# Altium schematic symbol library S6_2.SCHLIB: 50 symbols
Pins are listed as number, name and electrical type; pins without a type are passive.

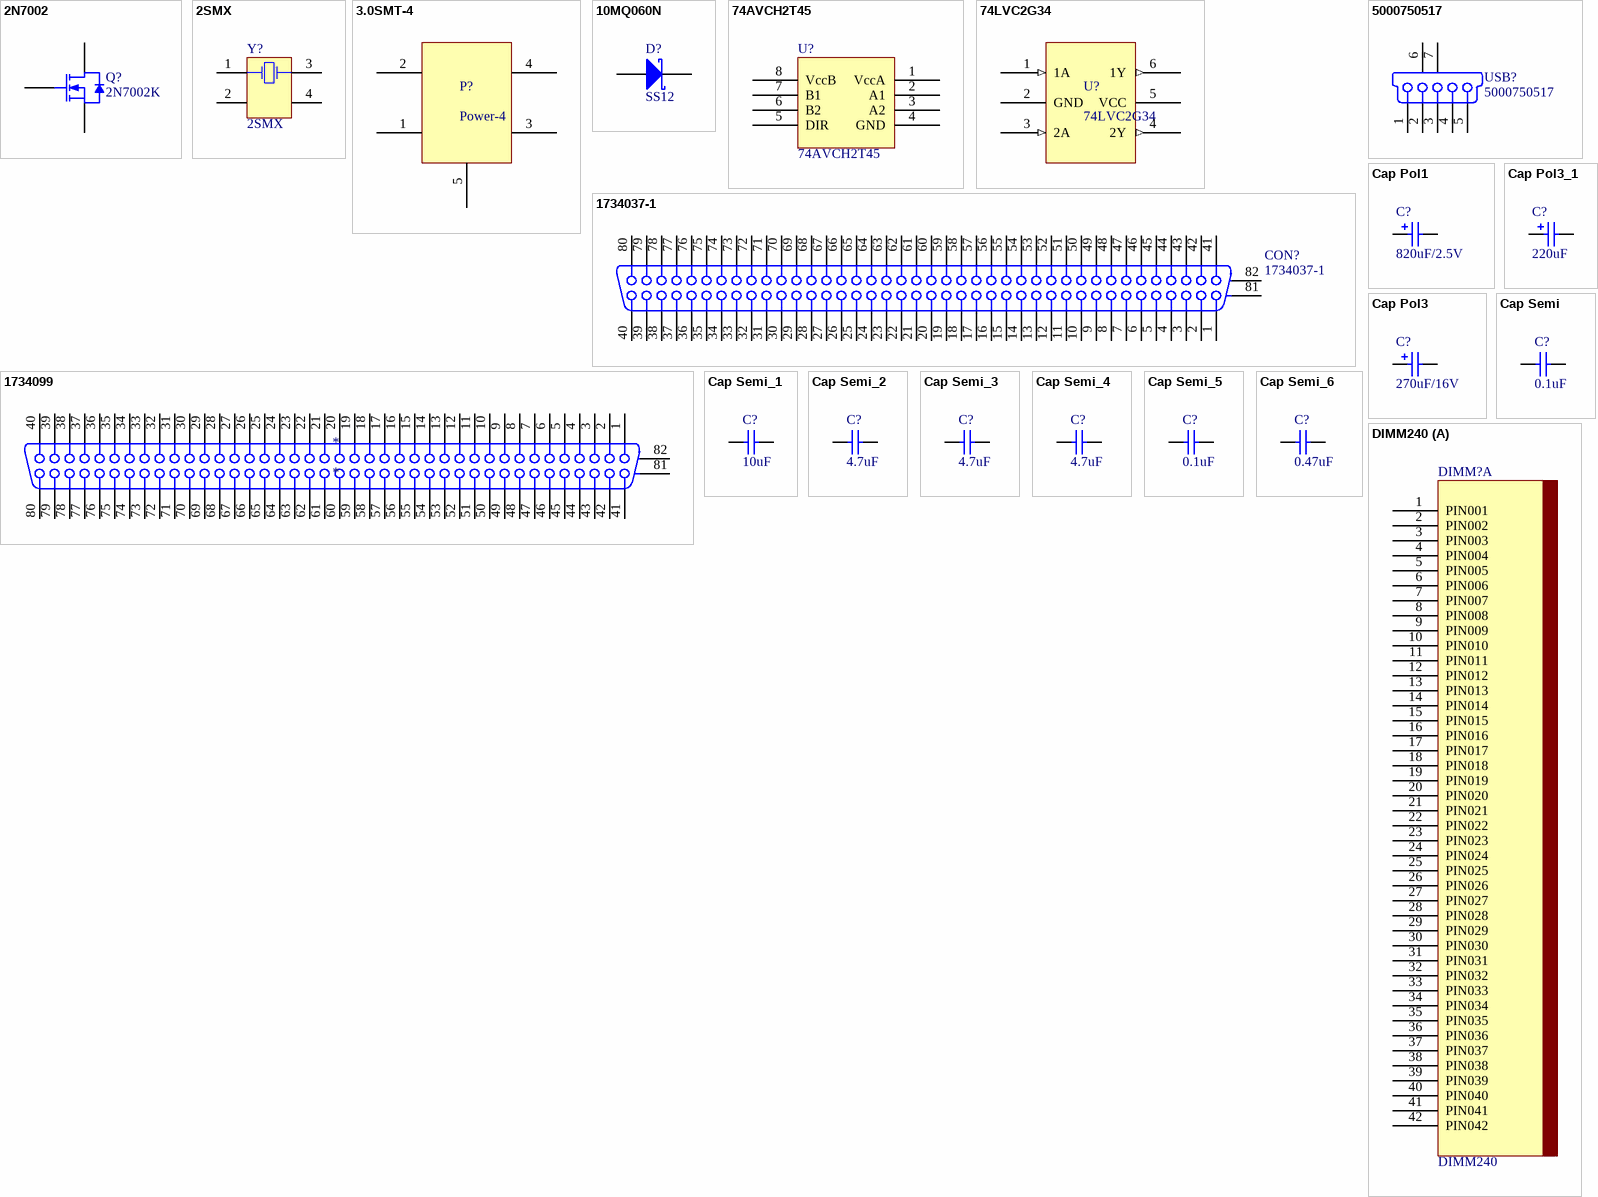
[diagram p0: symbols 2N7002 to DIMM240]

## 2N7002
designator Q?, comment 2N7002K
N-channel Enhancement Mode Field-effect Transistor; Published: 17-Sep-2003; LatestRevisionDate: 12-Dec-2006; LatestRevisionNote: IPC-7351 Footprint Added.; DatasheetVersion: 27-Jul-2000; PackageVersion: May-1999; PackageReference: SOT23; Publisher: Altium Limited; PackageDescription: 3-Pin SOT-23 Package 0.95 mm Pitch, 2.3 mm Lead Span; ComponentLink1Description: Manufacturer Link; ComponentLink1URL: http://www.semiconductors.philips.com/; ComponentLink2Description: Datasheet; ComponentLink2URL: http://www.semiconductors.philips.com/acrobat/datasheets/2N7002_4.pdf
footprint SOT23_N (SOT23, 3-Leads, Body 2.9x1.3mm, Pitch 0.95mm, Lead Span 2.3mm, IPC Medium Density)
footprint SOT23_L (SOT23, 3-Leads, Body 2.9x1.3mm, Pitch 0.95mm, Lead Span 2.3mm, IPC High Density)
footprint SOT23_M (SOT23, 3-Leads, Body 2.9x1.3mm, Pitch 0.95mm, Lead Span 2.3mm, IPC Low Density)
simulation model 2N7002 (SUBCKT)
pins: 1 G, 2 S, 3 D

## 2SMX
designator Y?
Surface Mount Quartz Crystal; Note: PCB layout complies with manufacturer's recommendation.; Published: 17-Jul-2002; DatasheetDocument: 9-Sep-1999; PackageDocument: 9-Sep-1999; PackageReference: 2SMX; Publisher: Altium Limited; ComponentLink1Description: Manufacturer Link; ComponentLink1URL: http://www.cmac.com/mt/
footprint SMX2
pins: 1 OSC1, 2 NC, 3 OSC2, 4 NC

## 3.0SMT-4
designator P?, comment Power-4
footprint 3.0SMT-4 (power connector)
pins: 1, 2, 3, 4, 5

## 10MQ060N
designator D?, comment SS12
Schottky Rectifier; Published: 17-Sep-2003; DatasheetVersion: May-2002; PackageVersion: revH, May-2002; PackageReference: SMA; Publisher: Altium Limited; PackageDescription: DO-214-AC/SMA; 2 C-Bend Leads; Body 5 x 2.7 mm, inc. leads (LxW); ComponentLink1Description: Manufacturer Link; ComponentLink1URL: http://www.irf.com/; ComponentLink2Description: Datasheet; ComponentLink2URL: http://www.irf.com/product-info/datasheets/data/10MQ060N.pdf
footprint SMA (DO-214-AC/SMA; 2 C-Bend Leads; Body 5 x 2.7 mm, inc. leads (LxW))
simulation model 10MQ060N (DIODE)
pins: 1 A, 2 K

## 74AVCH2T45
designator U?
footprint SOT765-1
pins: 1 VccA, 2 A1, 3 A2, 4 GND, 5 DIR, 6 B2, 7 B1, 8 VccB

## 74LVC2G34
designator U?
footprint SOT363_L (Footprint not found)
footprint SOT363_M (Footprint not found)
footprint SOT363_N (Footprint not found)
pins: 1 1A (in), 2 GND (power), 3 2A (in), 4 2Y (out), 5 VCC (power), 6 1Y (out)

## 1734037-1
designator CON?
footprint 1734037-1
pins: 1, 2, 3, 4, 5, 6, 7, 8, 9, 10, 11, 12, 13, 14, 15, 16, 17, 18, 19, 20, 21, 22, 23, 24, 25, 26, 27, 28, 29, 30, 31, 32, 33, 34, 35, 36, 37, 38, 39, 40, 41, 42, 43, 44, 45, 46, 47, 48, 49, 50, 51, 52, 53, 54, 55, 56, 57, 58, 59, 60, 61, 62, 63, 64, 65, 66, 67, 68, 69, 70, 71, 72, 73, 74, 75, 76, 77, 78, 79, 80, 81 MH1, 82 MH2

## 1734099
designator *
footprint 1734099
pins: 1, 2, 3, 4, 5, 6, 7, 8, 9, 10, 11, 12, 13, 14, 15, 16, 17, 18, 19, 20, 21, 22, 23, 24, 25, 26, 27, 28, 29, 30, 31, 32, 33, 34, 35, 36, 37, 38, 39, 40, 41, 42, 43, 44, 45, 46, 47, 48, 49, 50, 51, 52, 53, 54, 55, 56, 57, 58, 59, 60, 61, 62, 63, 64, 65, 66, 67, 68, 69, 70, 71, 72, 73, 74, 75, 76, 77, 78, 79, 80, 81 MH1, 82 MH2

## 5000750517
designator USB?
USB On-The-Go (OTG) Mini-B Receptacle, Right Angle, Thru-Hole, 0.80mm (.031") Pitch, Solder Tails & Shell Tabs with Dimples; PCB_Layout: Complies with Manufacturer's Recommendation.; Published: 30-May-2008; DatasheetVersion: rev0, Mar-2004; PackageVersion: rev0, Mar-2004; PackageReference: 5000750517; Publisher: Altium Limited; PackageDescription: USB Mini-B, Type 2, Thru-Hole; 5 Position; Vertical, Body 7.7 x 4.2 x 7.7 mm (LxWxH); ComponentLink1Description: Manufacturer Link; ComponentLink1URL: http://www.molex.com/; ComponentLink2Description: Datasheet; ComponentLink2URL: http://www.molex.com/pdm_docs/sd/5000750517_sd.pdf
footprint 5000750517 (Connector; USB Mini-B, Type 2, Thru-Hole; 5 Position; Vertical)
signal-integrity model USB Mini-B
pins: 1 V BUS "USB Vcc [Red]", 2 D- "USB Data - [White]", 3 D+ "USB Data + [Green]", 4 ID, 5 GND "Ground [Black]", 6 MH1 "Shell", 7 MH2 "Shell"

## Cap Pol1
designator C?, comment 820uF/2.5V
Polarized Capacitor (Radial); Published: 8-Jun-2000; LatestRevisionDate: 17-Jul-2002; LatestRevisionNote: Re-released for DXP Platform.; PackageReference: RB7.6-15; Publisher: Altium Limited; PackageDescription: Polarized Capacitor (Radial); 2 Leads; Value: 820uF/2.5V
footprint CAP8X8
simulation model CAP (Capacitor)
signal-integrity model Cap Pol
pins: 1, 2
1 alternate drawing of the same symbol

## Cap Pol3
designator C?, comment 270uF/16V
Polarized Capacitor (Surface Mount); Published: 8-Jun-2000; LatestRevisionDate: 29-May-2009; LatestRevisionNote: IPC-7351 Footprint Added.; PackageReference: C0805; Publisher: Altium Limited; PackageDescription: Chip Capacitor; Value: 270uF/16V
footprint CAP8X8
footprint 1812 (Chip Capacitor, Body 4.5x3.2mm, IPC High Density)
footprint 1825 (Chip Capacitor, Body 4.5x6.4mm, IPC High Density)
footprint C2225 (Chip Capacitor, Body 5.7x6.4mm, IPC High Density)
footprint 2220 (Chip Capacitor, Body 5.7x5.0mm, IPC High Density)
simulation model CAP (Capacitor)
signal-integrity model Cap Pol
pins: 1, 2
1 alternate drawing of the same symbol

## Cap Pol3_1
designator C?, comment 220uF
Polarized Capacitor (Surface Mount); Published: 8-Jun-2000; LatestRevisionDate: 29-May-2009; LatestRevisionNote: IPC-7351 Footprint Added.; PackageReference: C0805; Publisher: Altium Limited; PackageDescription: Chip Capacitor; Value: 220uF
footprint D (Capacitor, SM Tantalum; Body 7.3 x 4.3 mm (LxW typ))
footprint 1812 (Chip Capacitor, Body 4.5x3.2mm, IPC High Density)
footprint 1825 (Chip Capacitor, Body 4.5x6.4mm, IPC High Density)
footprint C2225 (Chip Capacitor, Body 5.7x6.4mm, IPC High Density)
footprint 2220 (Chip Capacitor, Body 5.7x5.0mm, IPC High Density)
simulation model CAP (Capacitor)
signal-integrity model Cap Pol
pins: 1, 2
1 alternate drawing of the same symbol

## Cap Semi
designator C?, comment 0.1uF
Capacitor (Semiconductor SIM Model); Published: 8-Jun-2000; LatestRevisionDate: 29-May-2009; LatestRevisionNote: IPC-7351 Footprint Added.; PackageReference: C1206; Publisher: Altium Limited; PackageDescription: Chip Capacitor; Value: 0.1uF
footprint CAPC3216L (Chip Capacitor, Body 3.2x1.6mm, IPC High Density)
footprint CAPC1005L (Chip Capacitor, Body 1.0x0.5mm, IPC High Density)
footprint CAPC2512L (Chip Capacitor, Body 2.54x1.27mm, IPC High Density)
footprint 1608[0603] (Chip Capacitor, Body 1.6x0.8mm, IPC High Density)
footprint CAPC3225L (Chip Capacitor, Body 3.2x2.5mm, IPC High Density)
simulation model CAP (Semiconductor Capacitor)
signal-integrity model Cap Semi
pins: 1, 2

## Cap Semi_1
designator C?, comment 10uF
Capacitor (Semiconductor SIM Model); Published: 8-Jun-2000; LatestRevisionDate: 29-May-2009; LatestRevisionNote: IPC-7351 Footprint Added.; PackageReference: C1206; Publisher: Altium Limited; PackageDescription: Chip Capacitor; Value: 10uF
footprint C1206 (Chip Capacitor, Body 3.2x1.6mm, IPC High Density)
footprint 0402 (Chip Capacitor, Body 1.0x0.5mm, IPC High Density)
footprint C2512 (Chip Capacitor, Body 2.54x1.27mm, IPC High Density)
footprint 1608[0603] (Chip Capacitor, Body 1.6x0.8mm, IPC High Density)
footprint C1210 (Chip Capacitor, Body 3.2x2.5mm, IPC High Density)
simulation model CAP (Semiconductor Capacitor)
signal-integrity model Cap Semi
pins: 1, 2

## Cap Semi_2
designator C?, comment 4.7uF
Capacitor (Semiconductor SIM Model); Published: 8-Jun-2000; LatestRevisionDate: 29-May-2009; LatestRevisionNote: IPC-7351 Footprint Added.; PackageReference: C1206; Publisher: Altium Limited; PackageDescription: Chip Capacitor; Value: 4.7uF
footprint C1206 (Chip Capacitor, Body 3.2x1.6mm, IPC High Density)
footprint 0402 (Chip Capacitor, Body 1.0x0.5mm, IPC High Density)
footprint C2512 (Chip Capacitor, Body 2.54x1.27mm, IPC High Density)
footprint C0805 (Chip Capacitor, Body 2.0x1.3mm, IPC High Density)
footprint C1210 (Chip Capacitor, Body 3.2x2.5mm, IPC High Density)
simulation model CAP (Semiconductor Capacitor)
signal-integrity model Cap Semi
pins: 1, 2

## Cap Semi_3
designator C?, comment 4.7uF
Capacitor (Semiconductor SIM Model); Published: 8-Jun-2000; LatestRevisionDate: 29-May-2009; LatestRevisionNote: IPC-7351 Footprint Added.; PackageReference: C1206; Publisher: Altium Limited; PackageDescription: Chip Capacitor; Value: 4.7uF
footprint C1206 (Chip Capacitor, Body 3.2x1.6mm, IPC High Density)
footprint 0402 (Chip Capacitor, Body 1.0x0.5mm, IPC High Density)
footprint C0805 (Chip Capacitor, Body 2.0x1.3mm, IPC High Density)
footprint 1608[0603] (Chip Capacitor, Body 1.6x0.8mm, IPC High Density)
footprint C1210 (Chip Capacitor, Body 3.2x2.5mm, IPC High Density)
simulation model CAP (Semiconductor Capacitor)
signal-integrity model Cap Semi
pins: 1, 2

## Cap Semi_4
designator C?, comment 4.7uF
Capacitor (Semiconductor SIM Model); Published: 8-Jun-2000; LatestRevisionDate: 29-May-2009; LatestRevisionNote: IPC-7351 Footprint Added.; PackageReference: C1206; Publisher: Altium Limited; PackageDescription: Chip Capacitor; Value: 4.7uF
footprint C0805 (Chip Capacitor, Body 2.0x1.3mm, IPC High Density)
footprint 0402 (Chip Capacitor, Body 1.0x0.5mm, IPC High Density)
footprint C2512 (Chip Capacitor, Body 2.54x1.27mm, IPC High Density)
footprint 1608[0603] (Chip Capacitor, Body 1.6x0.8mm, IPC High Density)
footprint C1210 (Chip Capacitor, Body 3.2x2.5mm, IPC High Density)
simulation model CAP (Semiconductor Capacitor)
signal-integrity model Cap Semi
pins: 1, 2

## Cap Semi_5
designator C?, comment 0.1uF
Capacitor (Semiconductor SIM Model); Published: 8-Jun-2000; LatestRevisionDate: 29-May-2009; LatestRevisionNote: IPC-7351 Footprint Added.; PackageReference: C1206; Publisher: Altium Limited; PackageDescription: Chip Capacitor; Value: 0.1uF
footprint C1206 (Chip Capacitor, Body 3.2x1.6mm, IPC High Density)
footprint 0402 (Chip Capacitor, Body 1.0x0.5mm, IPC High Density)
footprint C2512 (Chip Capacitor, Body 2.54x1.27mm, IPC High Density)
footprint 1608[0603] (Chip Capacitor, Body 1.6x0.8mm, IPC High Density)
footprint C1210 (Chip Capacitor, Body 3.2x2.5mm, IPC High Density)
simulation model CAP (Semiconductor Capacitor)
signal-integrity model Cap Semi
footprint J1-0603
pins: 1, 2

## Cap Semi_6
designator C?, comment 0.47uF
Capacitor (Semiconductor SIM Model); Published: 8-Jun-2000; LatestRevisionDate: 29-May-2009; LatestRevisionNote: IPC-7351 Footprint Added.; PackageReference: C1206; Publisher: Altium Limited; PackageDescription: Chip Capacitor; Value: 0.47uF
footprint C1206 (Chip Capacitor, Body 3.2x1.6mm, IPC High Density)
footprint 0402 (Chip Capacitor, Body 1.0x0.5mm, IPC High Density)
footprint C2512 (Chip Capacitor, Body 2.54x1.27mm, IPC High Density)
footprint 1608[0603] (Chip Capacitor, Body 1.6x0.8mm, IPC High Density)
footprint C1210 (Chip Capacitor, Body 3.2x2.5mm, IPC High Density)
simulation model CAP (Semiconductor Capacitor)
signal-integrity model Cap Semi
footprint C0805
pins: 1, 2

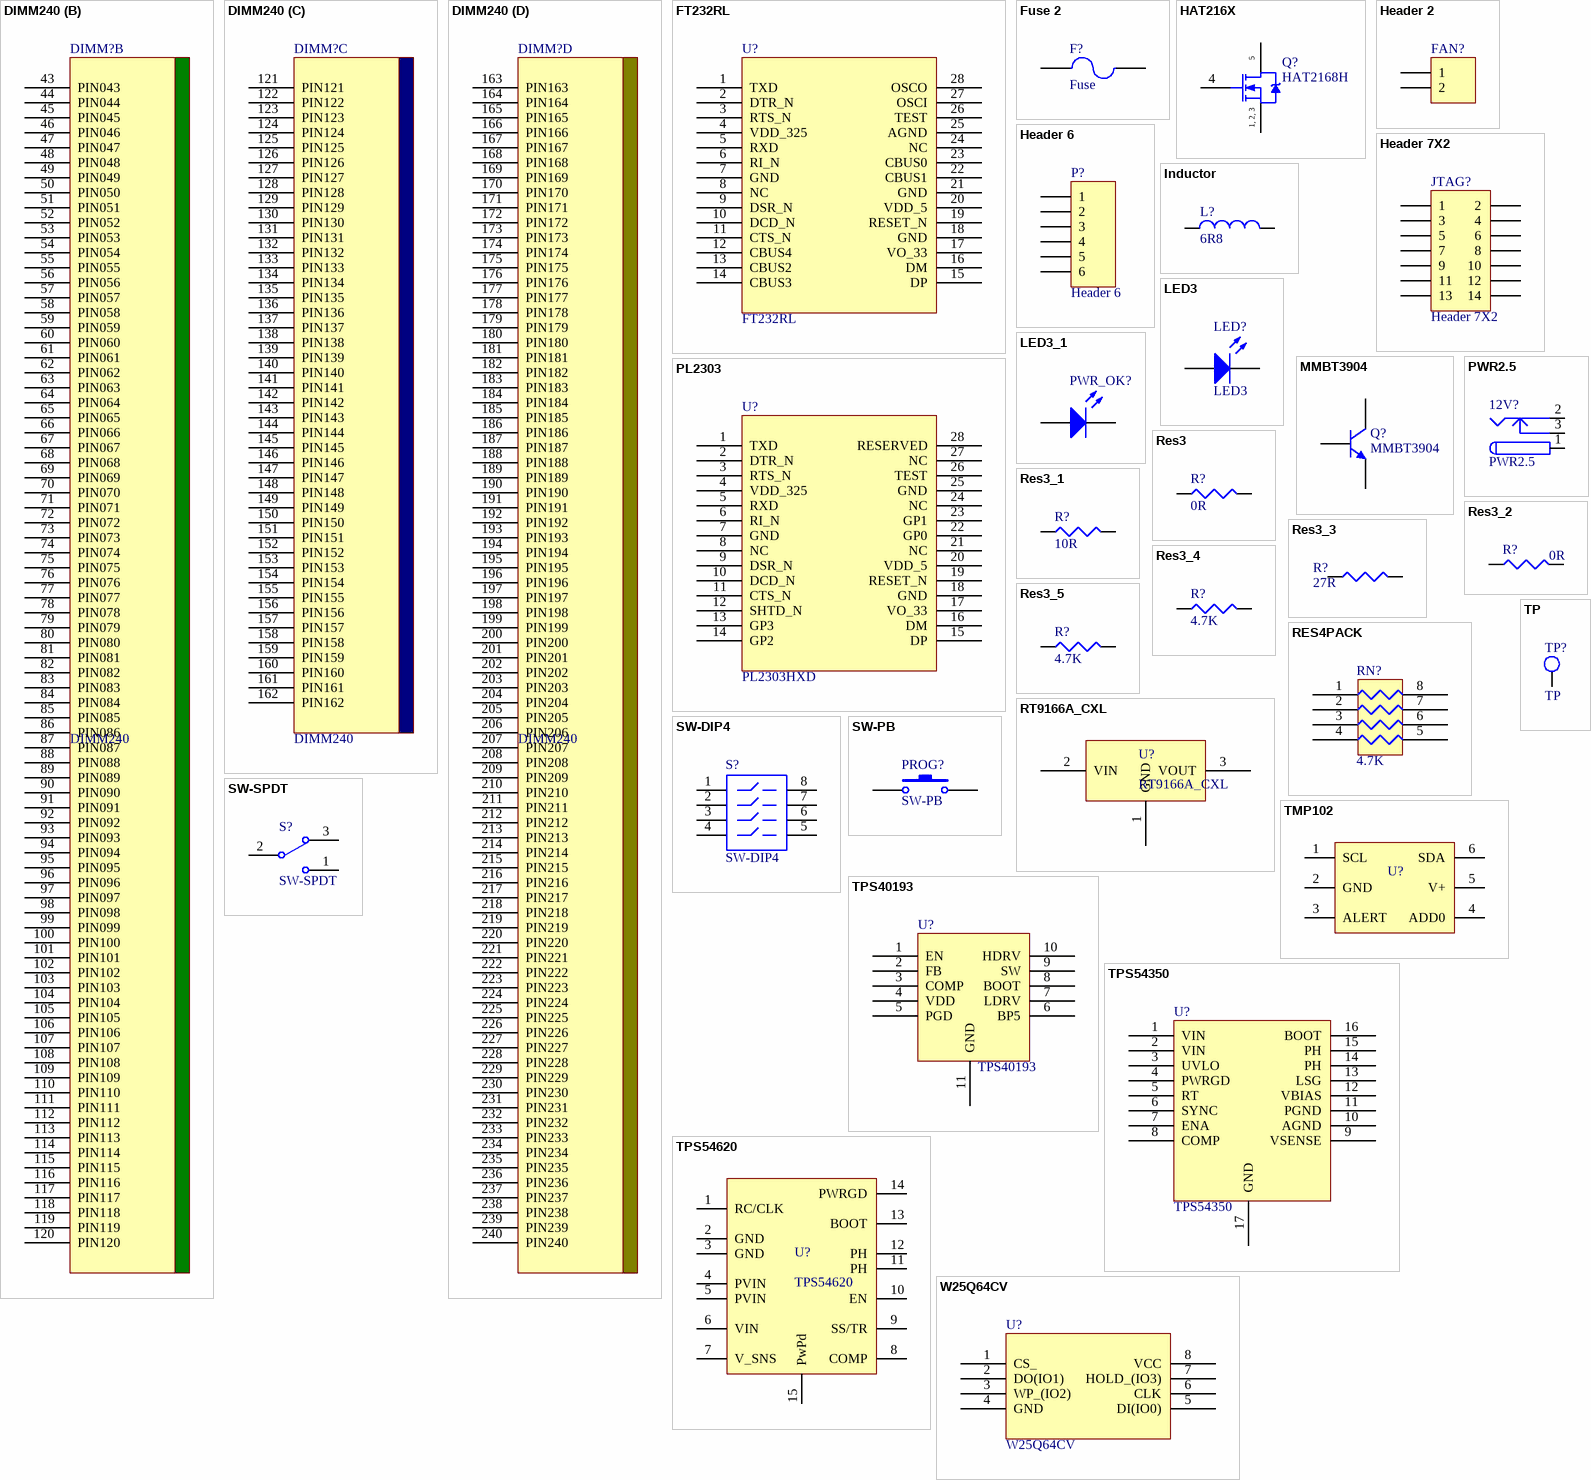
[diagram p1: symbols DIMM240 to W25Q64CV]

## DIMM240
designator DIMM?
footprint DIMM240
part A pins: 1 PIN001 (power), 2 PIN002 (power), 3 PIN003 (power), 4 PIN004 (power), 5 PIN005 (power), 6 PIN006 (power), 7 PIN007 (power), 8 PIN008 (power), 9 PIN009 (power), 10 PIN010 (power), 11 PIN011 (power), 12 PIN012 (power), 13 PIN013 (power), 14 PIN014 (power), 15 PIN015 (power), 16 PIN016 (power), 17 PIN017 (power), 18 PIN018 (power), 19 PIN019 (power), 20 PIN020 (power), 21 PIN021 (power), 22 PIN022 (power), 23 PIN023 (power), 24 PIN024 (power), 25 PIN025 (power), 26 PIN026 (power), 27 PIN027 (power), 28 PIN028 (power), 29 PIN029 (power), 30 PIN030 (power), 31 PIN031 (power), 32 PIN032 (power), 33 PIN033 (power), 34 PIN034 (power), 35 PIN035 (power), 36 PIN036 (power), 37 PIN037 (power), 38 PIN038 (power), 39 PIN039 (power), 40 PIN040 (power), 41 PIN041 (power), 42 PIN042 (power)
part B pins: 43 PIN043 (power), 44 PIN044 (power), 45 PIN045 (power), 46 PIN046 (power), 47 PIN047 (power), 48 PIN048 (power), 49 PIN049 (power), 50 PIN050 (power), 51 PIN051 (power), 52 PIN052 (power), 53 PIN053 (power), 54 PIN054 (power), 55 PIN055 (power), 56 PIN056 (power), 57 PIN057 (power), 58 PIN058 (power), 59 PIN059 (power), 60 PIN060 (power), 61 PIN061 (power), 62 PIN062 (power), 63 PIN063 (power), 64 PIN064 (power), 65 PIN065 (power), 66 PIN066 (power), 67 PIN067 (power), 68 PIN068 (power), 69 PIN069 (power), 70 PIN070 (power), 71 PIN071 (power), 72 PIN072 (power), 73 PIN073 (power), 74 PIN074 (power), 75 PIN075 (power), 76 PIN076 (power), 77 PIN077 (power), 78 PIN078 (power), 79 PIN079 (power), 80 PIN080 (power), 81 PIN081 (power), 82 PIN082 (power), 83 PIN083 (power), 84 PIN084 (power), 85 PIN085 (power), 86 PIN086 (power), 87 PIN087 (power), 88 PIN088 (power), 89 PIN089 (power), 90 PIN090 (power), 91 PIN091 (power), 92 PIN092 (power), 93 PIN093 (power), 94 PIN094 (power), 95 PIN095 (power), 96 PIN096 (power), 97 PIN097 (power), 98 PIN098 (power), 99 PIN099 (power), 100 PIN100 (power), 101 PIN101 (power), 102 PIN102 (power), 103 PIN103 (power), 104 PIN104 (power), 105 PIN105 (power), 106 PIN106 (power), 107 PIN107 (power), 108 PIN108 (power), 109 PIN109 (power), 110 PIN110 (power), 111 PIN111 (power), 112 PIN112 (power), 113 PIN113 (power), 114 PIN114 (power), 115 PIN115 (power), 116 PIN116 (power), 117 PIN117 (power), 118 PIN118 (power), 119 PIN119 (power), 120 PIN120 (power)
part C pins: 121 PIN121 (power), 122 PIN122 (power), 123 PIN123 (power), 124 PIN124 (power), 125 PIN125 (power), 126 PIN126 (power), 127 PIN127 (power), 128 PIN128 (power), 129 PIN129 (power), 130 PIN130 (power), 131 PIN131 (power), 132 PIN132 (power), 133 PIN133 (power), 134 PIN134 (power), 135 PIN135 (power), 136 PIN136 (power), 137 PIN137 (power), 138 PIN138 (power), 139 PIN139 (power), 140 PIN140 (power), 141 PIN141 (power), 142 PIN142 (power), 143 PIN143 (power), 144 PIN144 (power), 145 PIN145 (power), 146 PIN146 (power), 147 PIN147 (power), 148 PIN148 (power), 149 PIN149 (power), 150 PIN150 (power), 151 PIN151 (power), 152 PIN152 (power), 153 PIN153 (power), 154 PIN154 (power), 155 PIN155 (power), 156 PIN156 (power), 157 PIN157 (power), 158 PIN158 (power), 159 PIN159 (power), 160 PIN160 (power), 161 PIN161 (power), 162 PIN162 (power)
part D pins: 163 PIN163 (power), 164 PIN164 (power), 165 PIN165 (power), 166 PIN166 (power), 167 PIN167 (power), 168 PIN168 (power), 169 PIN169 (power), 170 PIN170 (power), 171 PIN171 (power), 172 PIN172 (power), 173 PIN173 (power), 174 PIN174 (power), 175 PIN175 (power), 176 PIN176 (power), 177 PIN177 (power), 178 PIN178 (power), 179 PIN179 (power), 180 PIN180 (power), 181 PIN181 (power), 182 PIN182 (power), 183 PIN183 (power), 184 PIN184 (power), 185 PIN185 (power), 186 PIN186 (power), 187 PIN187 (power), 188 PIN188 (power), 189 PIN189 (power), 190 PIN190 (power), 191 PIN191 (power), 192 PIN192 (power), 193 PIN193 (power), 194 PIN194 (power), 195 PIN195 (power), 196 PIN196 (power), 197 PIN197 (power), 198 PIN198 (power), 199 PIN199 (power), 200 PIN200 (power), 201 PIN201 (power), 202 PIN202 (power), 203 PIN203 (power), 204 PIN204 (power), 205 PIN205 (power), 206 PIN206 (power), 207 PIN207 (power), 208 PIN208 (power), 209 PIN209 (power), 210 PIN210 (power), 211 PIN211 (power), 212 PIN212 (power), 213 PIN213 (power), 214 PIN214 (power), 215 PIN215 (power), 216 PIN216 (power), 217 PIN217 (power), 218 PIN218 (power), 219 PIN219 (power), 220 PIN220 (power), 221 PIN221 (power), 222 PIN222 (power), 223 PIN223 (power), 224 PIN224 (power), 225 PIN225 (power), 226 PIN226 (power), 227 PIN227 (power), 228 PIN228 (power), 229 PIN229 (power), 230 PIN230 (power), 231 PIN231 (power), 232 PIN232 (power), 233 PIN233 (power), 234 PIN234 (power), 235 PIN235 (power), 236 PIN236 (power), 237 PIN237 (power), 238 PIN238 (power), 239 PIN239 (power), 240 PIN240 (power)

## FT232RL
designator U?
footprint SSOP28_N (SOP, 28-Leads, Body 10.2x5.3mm, Pitch 0.65mm, IPC Medium Density)
pins: 1 TXD (power), 2 DTR_N (power), 3 RTS_N (power), 4 VDD_325 (power), 5 RXD (power), 6 RI_N (power), 7 GND (power), 8 NC (power), 9 DSR_N (power), 10 DCD_N (power), 11 CTS_N (power), 12 CBUS4 (power), 13 CBUS2 (power), 14 CBUS3 (power), 15 DP (power), 16 DM (power), 17 VO_33 (power), 18 GND (power), 19 RESET_N (power), 20 VDD_5 (power), 21 GND (power), 22 CBUS1 (power), 23 CBUS0 (power), 24 NC (power), 25 AGND (power), 26 TEST (power), 27 OSCI (power), 28 OSCO (power)

## Fuse 2
designator F?, comment Fuse
Published: 8-Jun-2000; LatestRevisionDate: 17-Jul-2002; LatestRevisionNote: Re-released for DXP Platform.; PackageReference: PIN-W2/E2.8; Publisher: Altium Limited
footprint 12Z-2010 (Chip Resistor, Body 5.0x2.5mm, IPC High Density)
simulation model FUSE (Spice Subcircuit)
pins: 1, 2

## HAT216X
designator Q?, comment HAT2168H
footprint LFPAK
pins: 1 S, 2 S, 3 S, 4 G, 5 D
text: 1, 2, 3

## Header 2
designator FAN?  (value not drawn)
Header, 2-Pin; LatestRevisionDate: 17-Jul-2002; LatestRevisionNote: Re-released for DXP Platform.; Publisher: Altium Limited
footprint 2PINFAN
signal-integrity model Connector
pins: 1, 2

## Header 6
designator P?
Header, 6-Pin; LatestRevisionDate: 17-Jul-2002; LatestRevisionNote: Re-released for DXP Platform.; Publisher: Altium Limited
footprint HDR1X6 (Connector; Header; 6 Position)
signal-integrity model Connector
pins: 1, 2, 3, 4, 5, 6

## Header 7X2
designator JTAG?
Header, 7-Pin, Dual row; LatestRevisionDate: 17-Jul-2002; LatestRevisionNote: Re-released for DXP Platform.; Publisher: Altium Limited
footprint MOLEX14P
signal-integrity model Connector
pins: 1, 2, 3, 4, 5, 6, 7, 8, 9, 10, 11, 12, 13, 14

## Inductor
designator L?, comment value 6R8  (hidden comment: IHLP4040DZ11)
Inductor; Code_IEC: 1005; Published: 8-Jun-2000; LatestRevisionDate: 29-May-2009; LatestRevisionNote: IPC-7351 Footprint Added.; PackageReference: 0402-A; Publisher: Altium Limited; PackageDescription: Chip Inductor; Code_JEITA: 0402
footprint IHLP4040
footprint INDC1608L (Chip Inductor, Body 1.6x0.8mm, IPC High Density)
footprint 2029 (Chip Inductor, Body 2.0x1.2mm, IPC High Density)
footprint 0603 (Chip Inductor, Body 0.6x0.3mm, IPC High Density)
footprint INDC3216 (Chip Inductor, Body 3.2x1.6mm, IPC High Density)
footprint INDC4532 (Chip Inductor, Body 4.5x3.2mm, IPC High Density)
simulation model INDUCTOR (Inductor)
signal-integrity model Inductor
footprint IHLP2525
pins: 1, 2

## LED3
designator LED?
Typical BLUE SiC LED; Published: 8-Jun-2000; LatestRevisionDate: 17-Dec-2003; LatestRevisionNote: PCB Footprint replaced.; DatasheetVersion: 16-Apr-2002; PackageVersion: 16-Apr-2002; PackageReference: 3.5X2.8X1.9; Publisher: Altium Limited; PackageDescription: SM LED; 2 C-Bend Leads; Body 3.5 x 2.8 x 1.9 mm, inc leads (LxWxH typ)
footprint C0805 (Chip Capacitor, Body 2.0x1.3mm, IPC High Density)
simulation model LED3 (Diode)
signal-integrity model LED
footprint CD1608-0603
pins: 1 A, 2 K

## LED3_1
designator PWR_OK?, comment LED3  (value not drawn)
Typical BLUE SiC LED; Published: 8-Jun-2000; LatestRevisionDate: 17-Dec-2003; LatestRevisionNote: PCB Footprint replaced.; DatasheetVersion: 16-Apr-2002; PackageVersion: 16-Apr-2002; PackageReference: 3.5X2.8X1.9; Publisher: Altium Limited; PackageDescription: SM LED; 2 C-Bend Leads; Body 3.5 x 2.8 x 1.9 mm, inc leads (LxWxH typ)
footprint CD1608-0603 (Chip Diode; Body 1.6 x 0.8 mm (LxW typ))
simulation model LED3 (Diode)
signal-integrity model LED
pins: 1 A, 2 K

## MMBT3904
designator Q?
NPN Switching Transistor; Published: 17-Sep-2003; LatestRevisionDate: 12-Dec-2006; LatestRevisionNote: IPC-7351 Footprint Added.; DatasheetVersion: 13-May-2002; PackageVersion: May-1999; PackageReference: SOT23; Publisher: Altium Limited; PackageDescription: 3-Pin SOT-23 Package 0.95 mm Pitch, 2.3 mm Lead Span; ComponentLink1Description: Manufacturer Link; ComponentLink1URL: http://www.semiconductors.philips.com/; ComponentLink2Description: Datasheet; ComponentLink2URL: http://www.semiconductors.philips.com/acrobat/datasheets/MMBT3904_4.pdf
footprint SOT23_N (SOT23, 3-Leads, Body 2.9x1.3mm, Pitch 0.95mm, Lead Span 2.3mm, IPC Medium Density)
footprint SOT23_L (SOT23, 3-Leads, Body 2.9x1.3mm, Pitch 0.95mm, Lead Span 2.3mm, IPC High Density)
footprint SOT23_M (SOT23, 3-Leads, Body 2.9x1.3mm, Pitch 0.95mm, Lead Span 2.3mm, IPC Low Density)
simulation model QMMBT3904 (NPN)
signal-integrity model MMBT3904
pins: 1 B, 2 E, 3 C

## PL2303
designator U?, comment PL2303HXD
footprint SSOP28_N (SOP, 28-Leads, Body 10.2x5.3mm, Pitch 0.65mm, IPC Medium Density)
pins: 1 TXD (power), 2 DTR_N (power), 3 RTS_N (power), 4 VDD_325 (power), 5 RXD (power), 6 RI_N (power), 7 GND (power), 8 NC (power), 9 DSR_N (power), 10 DCD_N (power), 11 CTS_N (power), 12 SHTD_N (power), 13 GP3 (power), 14 GP2 (power), 15 DP (power), 16 DM (power), 17 VO_33 (power), 18 GND (power), 19 RESET_N (power), 20 VDD_5 (power), 21 NC (power), 22 GP0 (power), 23 GP1 (power), 24 NC (power), 25 GND (power), 26 TEST (power), 27 NC (power), 28 RESERVED (power)

## PWR2.5
designator 12V?
Low Voltage Power Supply Connector; Published: 17-Dec-2003; DatasheetDocument: 09-May-2002; Publisher: Altium Limited; ComponentLink1Description: Manufacturer Link; ComponentLink1URL: http://domino.kycon.com/internet/Products.html
footprint KLD-0202 (DC Power Jack, 2.5mm, KLD Series, PCB Mount)
signal-integrity model Connector
pins: 1 (power), 1A (power), 1B (power), 2 (power), 2A (power), 2B (power), 3 (power), 3A (power), 3B (power)

## Res3
designator R?, comment 0R
Resistor; Published: 8-Jun-2000; LatestRevisionDate: 29-May-2009; LatestRevisionNote: IPC-7351 Footprint Added.; PackageReference: J1-0603; Publisher: Altium Limited; PackageDescription: Chip Resistor; Value: 0R
footprint J1-0603 (Chip Resistor, Body 1.6x0.8mm, IPC High Density)
footprint RESC3225L (Chip Resistor, Body 3.2x2.5mm, IPC High Density)
footprint RESC5025L (Chip Resistor, Body 5.0x2.5mm, IPC High Density)
footprint RESC6332L (Chip Resistor, Body 6.3x3.2mm, IPC High Density)
simulation model RESISTOR (Resistor)
signal-integrity model Res
pins: 1, 2

## Res3_1
designator R?, comment 10R
Resistor; Published: 8-Jun-2000; LatestRevisionDate: 29-May-2009; LatestRevisionNote: IPC-7351 Footprint Added.; PackageReference: J1-0603; Publisher: Altium Limited; PackageDescription: Chip Resistor; Value: 10R
footprint J1-0603 (Chip Resistor, Body 1.6x0.8mm, IPC High Density)
footprint 14-1210 (Chip Resistor, Body 3.2x2.5mm, IPC High Density)
footprint 12Z-2010 (Chip Resistor, Body 5.0x2.5mm, IPC High Density)
footprint RESC6332 (Chip Resistor, Body 6.3x3.2mm, IPC High Density)
simulation model RESISTOR (Resistor)
signal-integrity model Res
pins: 1, 2

## Res3_2
designator R?, comment 0R
Resistor; Published: 8-Jun-2000; LatestRevisionDate: 29-May-2009; LatestRevisionNote: IPC-7351 Footprint Added.; PackageReference: J1-0603; Publisher: Altium Limited; PackageDescription: Chip Resistor; Value: 0R
footprint C1206 (Chip Capacitor, Body 3.2x1.6mm, IPC High Density)
footprint 14-1210 (Chip Resistor, Body 3.2x2.5mm, IPC High Density)
footprint 12Z-2010 (Chip Resistor, Body 5.0x2.5mm, IPC High Density)
footprint RESC6332 (Chip Resistor, Body 6.3x3.2mm, IPC High Density)
simulation model RESISTOR (Resistor)
signal-integrity model Res
pins: 1, 2

## Res3_3
designator R?, comment 27R
Resistor; Published: 8-Jun-2000; LatestRevisionDate: 29-May-2009; LatestRevisionNote: IPC-7351 Footprint Added.; PackageReference: J1-0603; Publisher: Altium Limited; PackageDescription: Chip Resistor; Value: 27R
footprint 0402 (Chip Capacitor, Body 1.0x0.5mm, IPC High Density)
footprint 14-1210 (Chip Resistor, Body 3.2x2.5mm, IPC High Density)
footprint 12Z-2010 (Chip Resistor, Body 5.0x2.5mm, IPC High Density)
footprint RESC6332 (Chip Resistor, Body 6.3x3.2mm, IPC High Density)
simulation model RESISTOR (Resistor)
signal-integrity model Res
footprint J1-0603
pins: 1, 2

## Res3_4
designator R?, comment 4.7K
Resistor; Published: 8-Jun-2000; LatestRevisionDate: 29-May-2009; LatestRevisionNote: IPC-7351 Footprint Added.; PackageReference: J1-0603; Publisher: Altium Limited; PackageDescription: Chip Resistor; Value: 4.7K
footprint 0402 (Chip Capacitor, Body 1.0x0.5mm, IPC High Density)
footprint 14-1210 (Chip Resistor, Body 3.2x2.5mm, IPC High Density)
footprint J1-0603 (Chip Resistor, Body 1.6x0.8mm, IPC High Density)
footprint RESC6332 (Chip Resistor, Body 6.3x3.2mm, IPC High Density)
simulation model RESISTOR (Resistor)
signal-integrity model Res
pins: 1, 2

## Res3_5
designator R?, comment 4.7K
Resistor; Published: 8-Jun-2000; LatestRevisionDate: 29-May-2009; LatestRevisionNote: IPC-7351 Footprint Added.; PackageReference: J1-0603; Publisher: Altium Limited; PackageDescription: Chip Resistor; Value: 4.7K
footprint 0402 (Chip Capacitor, Body 1.0x0.5mm, IPC High Density)
footprint 14-1210 (Chip Resistor, Body 3.2x2.5mm, IPC High Density)
footprint 12Z-2010 (Chip Resistor, Body 5.0x2.5mm, IPC High Density)
footprint RESC6332 (Chip Resistor, Body 6.3x3.2mm, IPC High Density)
simulation model RESISTOR (Resistor)
signal-integrity model Res
pins: 1, 2

## RES4PACK
designator RN?, comment 4.7K
footprint EXBV8V (Chip Resistor Array, (0603x4); SM; 8 Leads; Body 3.40 x 1.80 mm (LxW max))
pins: 1 (power), 2 (power), 3 (power), 4 (power), 5 (power), 6 (power), 7 (power), 8 (power)

## RT9166A_CXL
designator U?
footprint SOT-89_L (Footprint not found)
footprint SOT-89_M (Footprint not found)
footprint SOT-89_N (Footprint not found)
pins: 1 GND, 2 VIN, 3 VOUT

## SW-DIP4
designator S?
DIP Switch; Published: 24-Mar-1999; LatestRevisionDate: 17-Jul-2002; LatestRevisionNote: Re-released for DXP Platform.; PackageReference: DIP-8; Publisher: Altium Limited
footprint SO8_N (SOIC, 8-Leads, Body 4.9x3.9mm, Pitch 1.27mm, IPC Medium Density)
simulation model dpsw4 (Spice Subcircuit)
pins: 1, 2, 3, 4, 5, 6, 7, 8

## SW-PB
designator PROG?
Switch; Published: 24-Mar-1999; LatestRevisionDate: 17-Jul-2002; LatestRevisionNote: Re-released for DXP Platform.; PackageReference: SPST-2; Publisher: Altium Limited; PackageDescription: Switch; 2 Leads
footprint SW_2
pins: 1, 2

## SW-SPDT
designator S?
SPDT Subminiature Toggle Switch, Right Angle Mounting, Vertical Actuation; Published: 24-Mar-1999; LatestRevisionDate: 17-Dec-2003; LatestRevisionNote: Schematic revised, PCB Footprint replaced.; DatasheetVersion: 05-Dec-2000; PackageReference: TL36WW15050; Publisher: Altium Limited; PackageDescription: Switch; 4 Leads; ComponentLink1Description: Manufacturer Link; ComponentLink1URL: http://www.apem.com
footprint SW_3
pins: 1, 2, 3

## TMP102
designator U?  (value not drawn)
footprint SOT563
pins: 1 SCL, 2 GND, 3 ALERT, 4 ADD0, 5 V+, 6 SDA

## TP
designator TP?
footprint TP
pins: 1 TP

## TPS40193
designator U?
footprint SON10
pins: 1 EN, 2 FB, 3 COMP, 4 VDD, 5 PGD, 6 BP5, 7 LDRV, 8 BOOT, 9 SW, 10 HDRV, 11 GND

## TPS54350
designator U?
footprint TSSOP16_PP
pins: 1 VIN (power), 2 VIN (power), 3 UVLO, 4 PWRGD, 5 RT, 6 SYNC, 7 ENA, 8 COMP, 9 VSENSE, 10 AGND, 11 PGND, 12 VBIAS, 13 LSG, 14 PH, 15 PH, 16 BOOT, 17 GND (power)

## TPS54620
designator U?
footprint VQFN-14
pins: 1 RC/CLK, 2 GND, 3 GND, 4 PVIN, 5 PVIN, 6 VIN, 7 V_SNS, 8 COMP, 9 SS/TR, 10 EN, 11 PH, 12 PH, 13 BOOT, 14 PWRGD, 15 PwPd

## W25Q64CV
designator U?
footprint WSON6X5
pins: 1 CS_, 2 DO(IO1), 3 WP_(IO2), 4 GND, 5 DI(IO0), 6 CLK, 7 HOLD_(IO3), 8 VCC

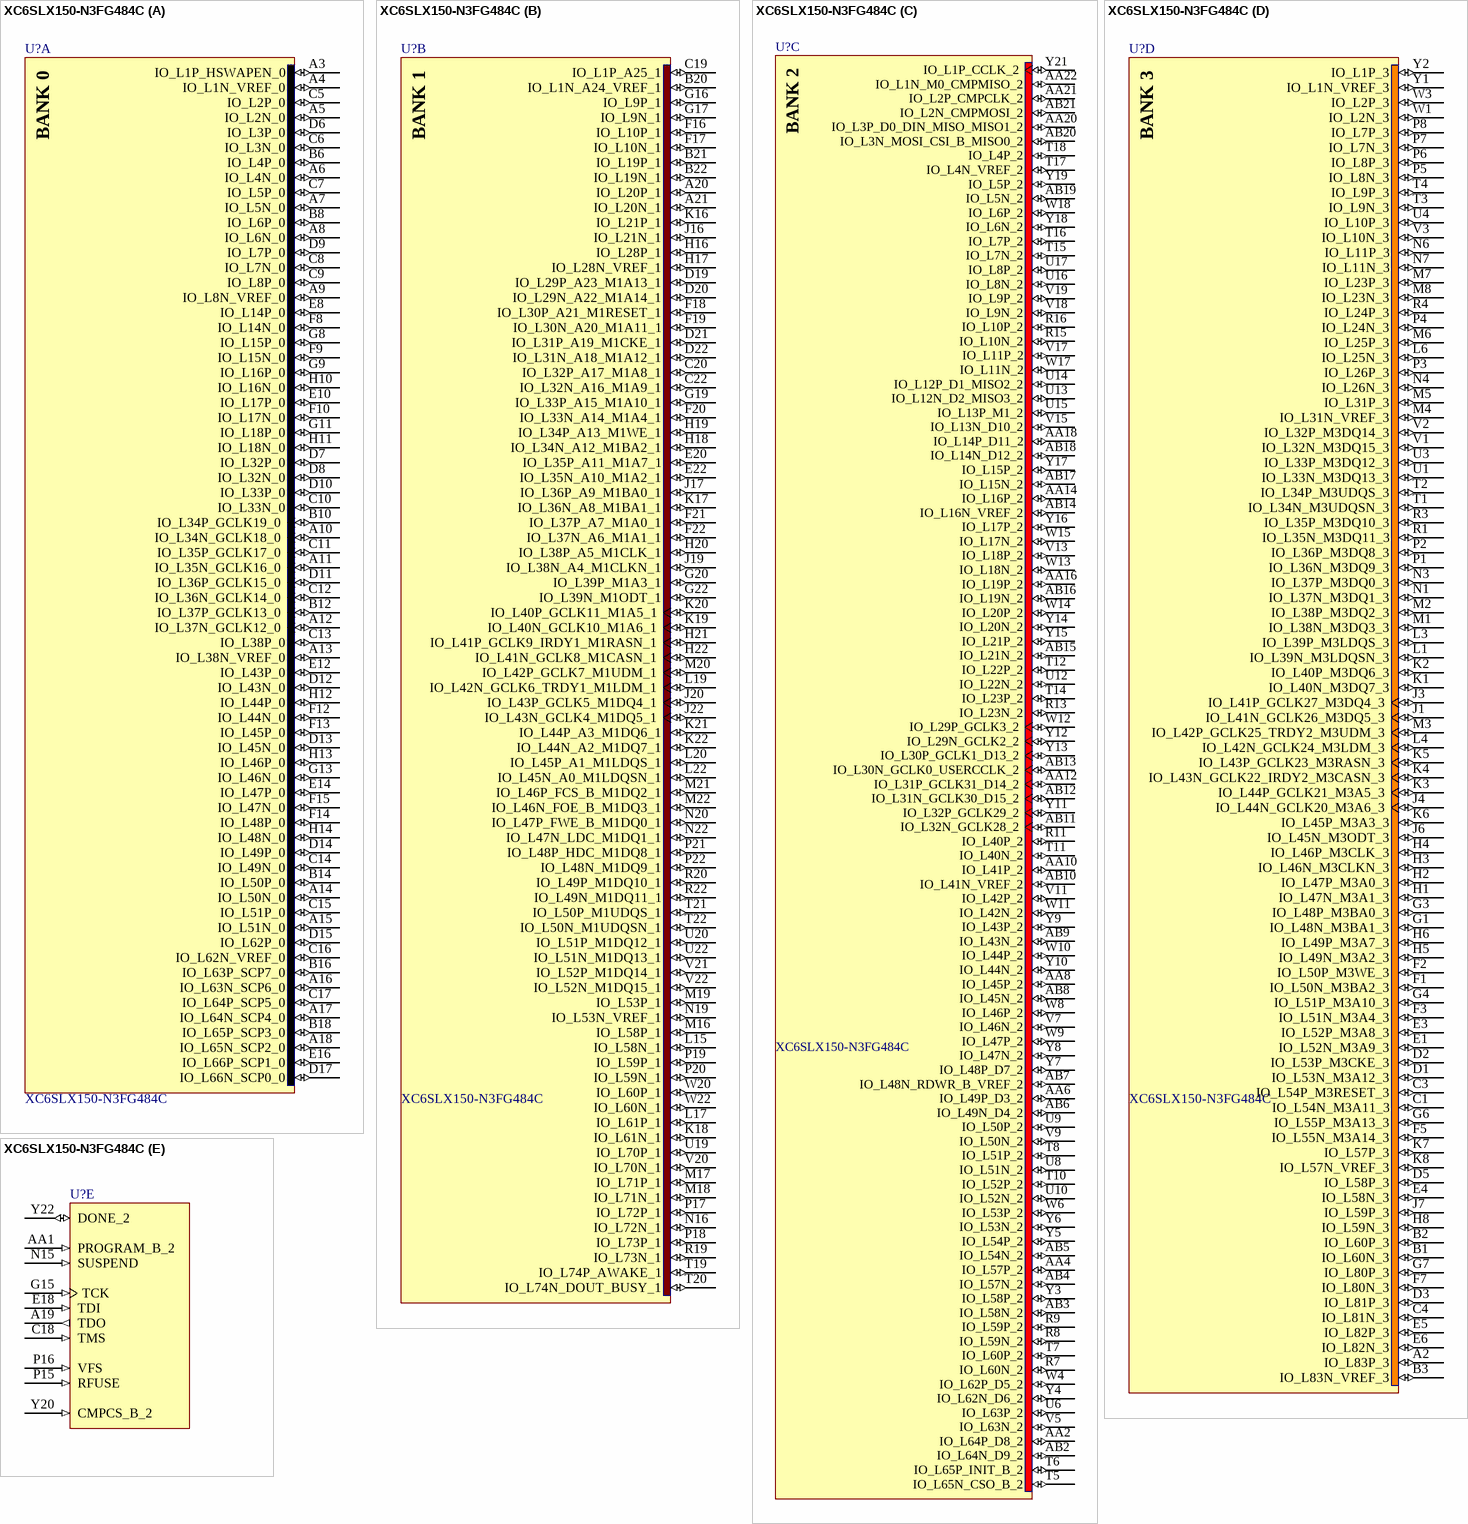
[diagram p2: symbol XC6SLX150-N3FG484C]

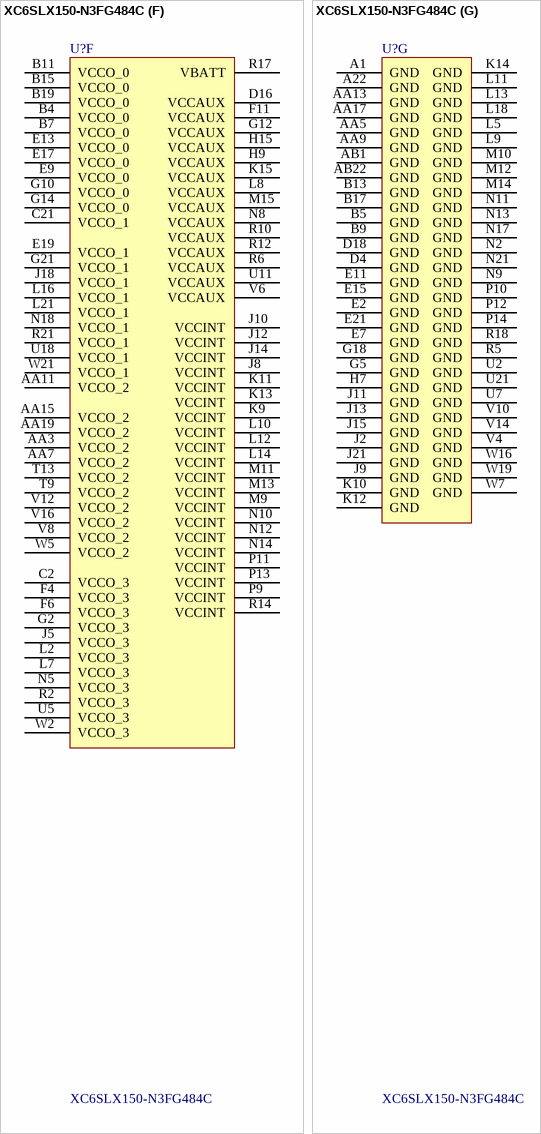
[diagram p3: symbol XC6SLX150-N3FG484C]

## XC6SLX150-N3FG484C
designator U?
Spartan-6 LX 1.2V FPGA, 338 User I/Os, 484-Ball Fine-Pitch BGA (1.0mm Pitch), Speed Grade 3N, Commercial Grade; Published: 24-Aug-2010; DatasheetVersion: ver1.6, Nov-2010; PackageVersion: ver1.1, Dec-2008; PackageReference: FG484; Publisher: Altium Limited; PackageDescription: 484-Ball Fine Pitch Ball Grid Array 1.00 mm Pitch (FG484); Code_JEDEC: MS-034-AAJ-1; Code_IPC: BGA100P22X22-484; ComponentLink1Description: Manufacturer Link; ComponentLink1URL: http://www.xilinx.com; ComponentLink2Description: Spartan-6 Datasheet; ComponentLink2URL: http://www.xilinx.com/support/documentation/data_sheets/ds160.pdf; ComponentLink3Description: Spartan-6 Documents; ComponentLink3URL: http://www.xilinx.com/support/documentation/spartan-6.htm; ComponentLink4Description: Xilinx.com Home; ComponentLink4URL: http://www.xilinx.com
footprint FG484 (BGA, 484-Leads, Body 23x23mm, Pitch 1mm)
signal-integrity model XC6SLX150_FG484 (Spartan-6)
part A pins: A3 IO_L1P_HSWAPEN_0 (io), A4 IO_L1N_VREF_0 (io), A5 IO_L2N_0 (io), A6 IO_L4N_0 (io), A7 IO_L5N_0 (io), A8 IO_L6N_0 (io), A9 IO_L8N_VREF_0 (io), A10 IO_L34N_GCLK18_0 (io), A11 IO_L35N_GCLK16_0 (io), A12 IO_L37N_GCLK12_0 (io), A13 IO_L38N_VREF_0 (io), A14 IO_L50N_0 (io), A15 IO_L51N_0 (io), A16 IO_L63N_SCP6_0 (io), A17 IO_L64N_SCP4_0 (io), A18 IO_L65N_SCP2_0 (io), B6 IO_L4P_0 (io), B8 IO_L6P_0 (io), B10 IO_L34P_GCLK19_0 (io), B12 IO_L37P_GCLK13_0 (io), B14 IO_L50P_0 (io), B16 IO_L63P_SCP7_0 (io), B18 IO_L65P_SCP3_0 (io), C5 IO_L2P_0 (io), C6 IO_L3N_0 (io), C7 IO_L5P_0 (io), C8 IO_L7N_0 (io), C9 IO_L8P_0 (io), C10 IO_L33N_0 (io), C11 IO_L35P_GCLK17_0 (io), C12 IO_L36N_GCLK14_0 (io), C13 IO_L38P_0 (io), C14 IO_L49N_0 (io), C15 IO_L51P_0 (io), C16 IO_L62N_VREF_0 (io), C17 IO_L64P_SCP5_0 (io), D6 IO_L3P_0 (io), D7 IO_L32P_0 (io), D8 IO_L32N_0 (io), D9 IO_L7P_0 (io), D10 IO_L33P_0 (io), D11 IO_L36P_GCLK15_0 (io), D12 IO_L43N_0 (io), D13 IO_L45N_0 (io), D14 IO_L49P_0 (io), D15 IO_L62P_0 (io), D17 IO_L66N_SCP0_0 (io), E8 IO_L14P_0 (io), E10 IO_L17P_0 (io), E12 IO_L43P_0 (io), E14 IO_L47P_0 (io), E16 IO_L66P_SCP1_0 (io), F8 IO_L14N_0 (io), F9 IO_L15N_0 (io), F10 IO_L17N_0 (io), F12 IO_L44N_0 (io), F13 IO_L45P_0 (io), F14 IO_L48P_0 (io), F15 IO_L47N_0 (io), G8 IO_L15P_0 (io), G9 IO_L16P_0 (io), G11 IO_L18P_0 (io), G13 IO_L46N_0 (io), H10 IO_L16N_0 (io), H11 IO_L18N_0 (io), H12 IO_L44P_0 (io), H13 IO_L46P_0 (io), H14 IO_L48N_0 (io)
part B pins: A20 IO_L20P_1 (io), A21 IO_L20N_1 (io), B20 IO_L1N_A24_VREF_1 (io), B21 IO_L19P_1 (io), B22 IO_L19N_1 (io), C19 IO_L1P_A25_1 (io), C20 IO_L32P_A17_M1A8_1 (io), C22 IO_L32N_A16_M1A9_1 (io), D19 IO_L29P_A23_M1A13_1 (io), D20 IO_L29N_A22_M1A14_1 (io), D21 IO_L31P_A19_M1CKE_1 (io), D22 IO_L31N_A18_M1A12_1 (io), E20 IO_L35P_A11_M1A7_1 (io), E22 IO_L35N_A10_M1A2_1 (io), F16 IO_L10P_1 (io), F17 IO_L10N_1 (io), F18 IO_L30P_A21_M1RESET_1 (io), F19 IO_L30N_A20_M1A11_1 (io), F20 IO_L33N_A14_M1A4_1 (io), F21 IO_L37P_A7_M1A0_1 (io), F22 IO_L37N_A6_M1A1_1 (io), G16 IO_L9P_1 (io), G17 IO_L9N_1 (io), G19 IO_L33P_A15_M1A10_1 (io), G20 IO_L39P_M1A3_1 (io), G22 IO_L39N_M1ODT_1 (io), H16 IO_L28P_1 (io), H17 IO_L28N_VREF_1 (io), H18 IO_L34N_A12_M1BA2_1 (io), H19 IO_L34P_A13_M1WE_1 (io), H20 IO_L38P_A5_M1CLK_1 (io), H21 IO_L41P_GCLK9_IRDY1_M1RASN_1 (io), H22 IO_L41N_GCLK8_M1CASN_1 (io), J16 IO_L21N_1 (io), J17 IO_L36P_A9_M1BA0_1 (io), J19 IO_L38N_A4_M1CLKN_1 (io), J20 IO_L43P_GCLK5_M1DQ4_1 (io), J22 IO_L43N_GCLK4_M1DQ5_1 (io), K16 IO_L21P_1 (io), K17 IO_L36N_A8_M1BA1_1 (io), K18 IO_L61N_1 (io), K19 IO_L40N_GCLK10_M1A6_1 (io), K20 IO_L40P_GCLK11_M1A5_1 (io), K21 IO_L44P_A3_M1DQ6_1 (io), K22 IO_L44N_A2_M1DQ7_1 (io), L15 IO_L58N_1 (io), L17 IO_L61P_1 (io), L19 IO_L42N_GCLK6_TRDY1_M1LDM_1 (io), L20 IO_L45P_A1_M1LDQS_1 (io), L22 IO_L45N_A0_M1LDQSN_1 (io), M16 IO_L58P_1 (io), M17 IO_L71P_1 (io), M18 IO_L71N_1 (io), M19 IO_L53P_1 (io), M20 IO_L42P_GCLK7_M1UDM_1 (io), M21 IO_L46P_FCS_B_M1DQ2_1 (io), M22 IO_L46N_FOE_B_M1DQ3_1 (io), N16 IO_L72N_1 (io), N19 IO_L53N_VREF_1 (io), N20 IO_L47P_FWE_B_M1DQ0_1 (io), N22 IO_L47N_LDC_M1DQ1_1 (io), P17 IO_L72P_1 (io), P18 IO_L73P_1 (io), P19 IO_L59P_1 (io), P20 IO_L59N_1 (io), P21 IO_L48P_HDC_M1DQ8_1 (io), P22 IO_L48N_M1DQ9_1 (io), R19 IO_L73N_1 (io), R20 IO_L49P_M1DQ10_1 (io), R22 IO_L49N_M1DQ11_1 (io), T19 IO_L74P_AWAKE_1 (io), T20 IO_L74N_DOUT_BUSY_1 (io), T21 IO_L50P_M1UDQS_1 (io), T22 IO_L50N_M1UDQSN_1 (io), U19 IO_L70P_1 (io), U20 IO_L51P_M1DQ12_1 (io), U22 IO_L51N_M1DQ13_1 (io), V20 IO_L70N_1 (io), V21 IO_L52P_M1DQ14_1 (io), V22 IO_L52N_M1DQ15_1 (io), W20 IO_L60P_1 (io), W22 IO_L60N_1 (io)
part C pins: AA2 IO_L64P_D8_2 (io), AA4 IO_L57P_2 (io), AA6 IO_L49P_D3_2 (io), AA8 IO_L45P_2 (io), AA10 IO_L41P_2 (io), AA12 IO_L31P_GCLK31_D14_2 (io), AA14 IO_L16P_2 (io), AA16 IO_L19P_2 (io), AA18 IO_L14P_D11_2 (io), AA20 IO_L3P_D0_DIN_MISO_MISO1_2 (io), AA21 IO_L2P_CMPCLK_2 (io), AA22 IO_L1N_M0_CMPMISO_2 (io), AB2 IO_L64N_D9_2 (io), AB3 IO_L58N_2 (io), AB4 IO_L57N_2 (io), AB5 IO_L54N_2 (io), AB6 IO_L49N_D4_2 (io), AB7 IO_L48N_RDWR_B_VREF_2 (io), AB8 IO_L45N_2 (io), AB9 IO_L43N_2 (io), AB10 IO_L41N_VREF_2 (io), AB11 IO_L32N_GCLK28_2 (io), AB12 IO_L31N_GCLK30_D15_2 (io), AB13 IO_L30N_GCLK0_USERCCLK_2 (io), AB14 IO_L16N_VREF_2 (io), AB15 IO_L21N_2 (io), AB16 IO_L19N_2 (io), AB17 IO_L15N_2 (io), AB18 IO_L14N_D12_2 (io), AB19 IO_L5N_2 (io), AB20 IO_L3N_MOSI_CSI_B_MISO0_2 (io), AB21 IO_L2N_CMPMOSI_2 (io), R7 IO_L60N_2 (io), R8 IO_L59N_2 (io), R9 IO_L59P_2 (io), R11 IO_L40P_2 (io), R13 IO_L23N_2 (io), R15 IO_L10N_2 (io), R16 IO_L10P_2 (io), T5 IO_L65N_CSO_B_2 (io), T6 IO_L65P_INIT_B_2 (io), T7 IO_L60P_2 (io), T8 IO_L51P_2 (io), T10 IO_L52P_2 (io), T11 IO_L40N_2 (io), T12 IO_L22P_2 (io), T14 IO_L23P_2 (io), T15 IO_L7N_2 (io), T16 IO_L7P_2 (io), T17 IO_L4N_VREF_2 (io), T18 IO_L4P_2 (io), U6 IO_L63P_2 (io), U8 IO_L51N_2 (io), U9 IO_L50P_2 (io), U10 IO_L52N_2 (io), U12 IO_L22N_2 (io), U13 IO_L12N_D2_MISO3_2 (io), U14 IO_L12P_D1_MISO2_2 (io), U15 IO_L13P_M1_2 (io), U16 IO_L8N_2 (io), U17 IO_L8P_2 (io), V5 IO_L63N_2 (io), V7 IO_L46N_2 (io), V9 IO_L50N_2 (io), V11 IO_L42P_2 (io), V13 IO_L18P_2 (io), V15 IO_L13N_D10_2 (io), V17 IO_L11P_2 (io), V18 IO_L9N_2 (io), V19 IO_L9P_2 (io), W4 IO_L62P_D5_2 (io), W6 IO_L53P_2 (io), W8 IO_L46P_2 (io), W9 IO_L47P_2 (io), W10 IO_L44P_2 (io), W11 IO_L42N_2 (io), W12 IO_L29P_GCLK3_2 (io), W13 IO_L18N_2 (io), W14 IO_L20P_2 (io), W15 IO_L17N_2 (io), W17 IO_L11N_2 (io), W18 IO_L6P_2 (io), Y3 IO_L58P_2 (io), Y4 IO_L62N_D6_2 (io), Y5 IO_L54P_2 (io), Y6 IO_L53N_2 (io), Y7 IO_L48P_D7_2 (io), Y8 IO_L47N_2 (io), Y9 IO_L43P_2 (io), Y10 IO_L44N_2 (io), Y11 IO_L32P_GCLK29_2 (io), Y12 IO_L29N_GCLK2_2 (io), Y13 IO_L30P_GCLK1_D13_2 (io), Y14 IO_L20N_2 (io), Y15 IO_L21P_2 (io), Y16 IO_L17P_2 (io), Y17 IO_L15P_2 (io), Y18 IO_L6N_2 (io), Y19 IO_L5P_2 (io), Y21 IO_L1P_CCLK_2 (io)
part D pins: A2 IO_L83P_3 (io), B1 IO_L60N_3 (io), B2 IO_L60P_3 (io), B3 IO_L83N_VREF_3 (io), C1 IO_L54N_M3A11_3 (io), C3 IO_L54P_M3RESET_3 (io), C4 IO_L81N_3 (io), D1 IO_L53N_M3A12_3 (io), D2 IO_L53P_M3CKE_3 (io), D3 IO_L81P_3 (io), D5 IO_L58P_3 (io), E1 IO_L52N_M3A9_3 (io), E3 IO_L52P_M3A8_3 (io), E4 IO_L58N_3 (io), E5 IO_L82P_3 (io), E6 IO_L82N_3 (io), F1 IO_L50N_M3BA2_3 (io), F2 IO_L50P_M3WE_3 (io), F3 IO_L51N_M3A4_3 (io), F5 IO_L55N_M3A14_3 (io), F7 IO_L80N_3 (io), G1 IO_L48N_M3BA1_3 (io), G3 IO_L48P_M3BA0_3 (io), G4 IO_L51P_M3A10_3 (io), G6 IO_L55P_M3A13_3 (io), G7 IO_L80P_3 (io), H1 IO_L47N_M3A1_3 (io), H2 IO_L47P_M3A0_3 (io), H3 IO_L46N_M3CLKN_3 (io), H4 IO_L46P_M3CLK_3 (io), H5 IO_L49N_M3A2_3 (io), H6 IO_L49P_M3A7_3 (io), H8 IO_L59N_3 (io), J1 IO_L41N_GCLK26_M3DQ5_3 (io), J3 IO_L41P_GCLK27_M3DQ4_3 (io), J4 IO_L44N_GCLK20_M3A6_3 (io), J6 IO_L45N_M3ODT_3 (io), J7 IO_L59P_3 (io), K1 IO_L40N_M3DQ7_3 (io), K2 IO_L40P_M3DQ6_3 (io), K3 IO_L44P_GCLK21_M3A5_3 (io), K4 IO_L43N_GCLK22_IRDY2_M3CASN_3 (io), K5 IO_L43P_GCLK23_M3RASN_3 (io), K6 IO_L45P_M3A3_3 (io), K7 IO_L57P_3 (io), K8 IO_L57N_VREF_3 (io), L1 IO_L39N_M3LDQSN_3 (io), L3 IO_L39P_M3LDQS_3 (io), L4 IO_L42N_GCLK24_M3LDM_3 (io), L6 IO_L25N_3 (io), M1 IO_L38N_M3DQ3_3 (io), M2 IO_L38P_M3DQ2_3 (io), M3 IO_L42P_GCLK25_TRDY2_M3UDM_3 (io), M4 IO_L31N_VREF_3 (io), M5 IO_L31P_3 (io), M6 IO_L25P_3 (io), M7 IO_L23P_3 (io), M8 IO_L23N_3 (io), N1 IO_L37N_M3DQ1_3 (io), N3 IO_L37P_M3DQ0_3 (io), N4 IO_L26N_3 (io), N6 IO_L11P_3 (io), N7 IO_L11N_3 (io), P1 IO_L36N_M3DQ9_3 (io), P2 IO_L36P_M3DQ8_3 (io), P3 IO_L26P_3 (io), P4 IO_L24N_3 (io), P5 IO_L8N_3 (io), P6 IO_L8P_3 (io), P7 IO_L7N_3 (io), P8 IO_L7P_3 (io), R1 IO_L35N_M3DQ11_3 (io), R3 IO_L35P_M3DQ10_3 (io), R4 IO_L24P_3 (io), T1 IO_L34N_M3UDQSN_3 (io), T2 IO_L34P_M3UDQS_3 (io), T3 IO_L9N_3 (io), T4 IO_L9P_3 (io), U1 IO_L33N_M3DQ13_3 (io), U3 IO_L33P_M3DQ12_3 (io), U4 IO_L10P_3 (io), V1 IO_L32N_M3DQ15_3 (io), V2 IO_L32P_M3DQ14_3 (io), V3 IO_L10N_3 (io), W1 IO_L2N_3 (io), W3 IO_L2P_3 (io), Y1 IO_L1N_VREF_3 (io), Y2 IO_L1P_3 (io)
part E pins: A19 TDO (out), AA1 PROGRAM_B_2 (in), C18 TMS (in), E18 TDI (in), G15 TCK (in), N15 SUSPEND (in), P15 RFUSE (in), P16 VFS (in), Y20 CMPCS_B_2 (in), Y22 DONE_2 (io)
part F pins: AA3 VCCO_2 (power), AA7 VCCO_2 (power), AA11 VCCO_2 (power), AA15 VCCO_2 (power), AA19 VCCO_2 (power), B4 VCCO_0 (power), B7 VCCO_0 (power), B11 VCCO_0 (power), B15 VCCO_0 (power), B19 VCCO_0 (power), C2 VCCO_3 (power), C21 VCCO_1 (power), D16 VCCAUX (power), E9 VCCO_0 (power), E13 VCCO_0 (power), E17 VCCO_0 (power), E19 VCCO_1 (power), F4 VCCO_3 (power), F6 VCCO_3 (power), F11 VCCAUX (power), G2 VCCO_3 (power), G10 VCCO_0 (power), G12 VCCAUX (power), G14 VCCO_0 (power), G21 VCCO_1 (power), H9 VCCAUX (power), H15 VCCAUX (power), J5 VCCO_3 (power), J8 VCCINT (power), J10 VCCINT (power), J12 VCCINT (power), J14 VCCINT (power), J18 VCCO_1 (power), K9 VCCINT (power), K11 VCCINT (power), K13 VCCINT (power), K15 VCCAUX (power), L2 VCCO_3 (power), L7 VCCO_3 (power), L8 VCCAUX (power), L10 VCCINT (power), L12 VCCINT (power), L14 VCCINT (power), L16 VCCO_1 (power), L21 VCCO_1 (power), M9 VCCINT (power), M11 VCCINT (power), M13 VCCINT (power), M15 VCCAUX (power), N5 VCCO_3 (power), N8 VCCAUX (power), N10 VCCINT (power), N12 VCCINT (power), N14 VCCINT (power), N18 VCCO_1 (power), P9 VCCINT (power), P11 VCCINT (power), P13 VCCINT (power), R2 VCCO_3 (power), R6 VCCAUX (power), R10 VCCAUX (power), R12 VCCAUX (power), R14 VCCINT (power), R17 VBATT (power), R21 VCCO_1 (power), T9 VCCO_2 (power), T13 VCCO_2 (power), U5 VCCO_3 (power), U11 VCCAUX (power), U18 VCCO_1 (power), V6 VCCAUX (power), V8 VCCO_2 (power), V12 VCCO_2 (power), V16 VCCO_2 (power), W2 VCCO_3 (power), W5 VCCO_2 (power), W21 VCCO_1 (power)
part G pins: A1 GND (power), A22 GND (power), AA5 GND (power), AA9 GND (power), AA13 GND (power), AA17 GND (power), AB1 GND (power), AB22 GND (power), B5 GND (power), B9 GND (power), B13 GND (power), B17 GND (power), D4 GND (power), D18 GND (power), E2 GND (power), E7 GND (power), E11 GND (power), E15 GND (power), E21 GND (power), G5 GND (power), G18 GND (power), H7 GND (power), J2 GND (power), J9 GND (power), J11 GND (power), J13 GND (power), J15 GND (power), J21 GND (power), K10 GND (power), K12 GND (power), K14 GND (power), L5 GND (power), L9 GND (power), L11 GND (power), L13 GND (power), L18 GND (power), M10 GND (power), M12 GND (power), M14 GND (power), N2 GND (power), N9 GND (power), N11 GND (power), N13 GND (power), N17 GND (power), N21 GND (power), P10 GND (power), P12 GND (power), P14 GND (power), R5 GND (power), R18 GND (power), U2 GND (power), U7 GND (power), U21 GND (power), V4 GND (power), V10 GND (power), V14 GND (power), W7 GND (power), W16 GND (power), W19 GND (power)
part A text: BANK 0
part B text: BANK 1
part C text: BANK 2
part D text: BANK 3